# Altium footprint library QUTMS-MCISOLibrary.PcbLib: 51 footprints (part 1 of 4)
Each footprint in its own frame and in the unit in brackets; x right, y up, seen from the top. Pads: shape width x height; smd on the part's side, far side on the other; paste and mask are expansions set on the pad; w line width, h text height; cw(c..) or ccw(c..) is an arc to the next point about the centre after c.
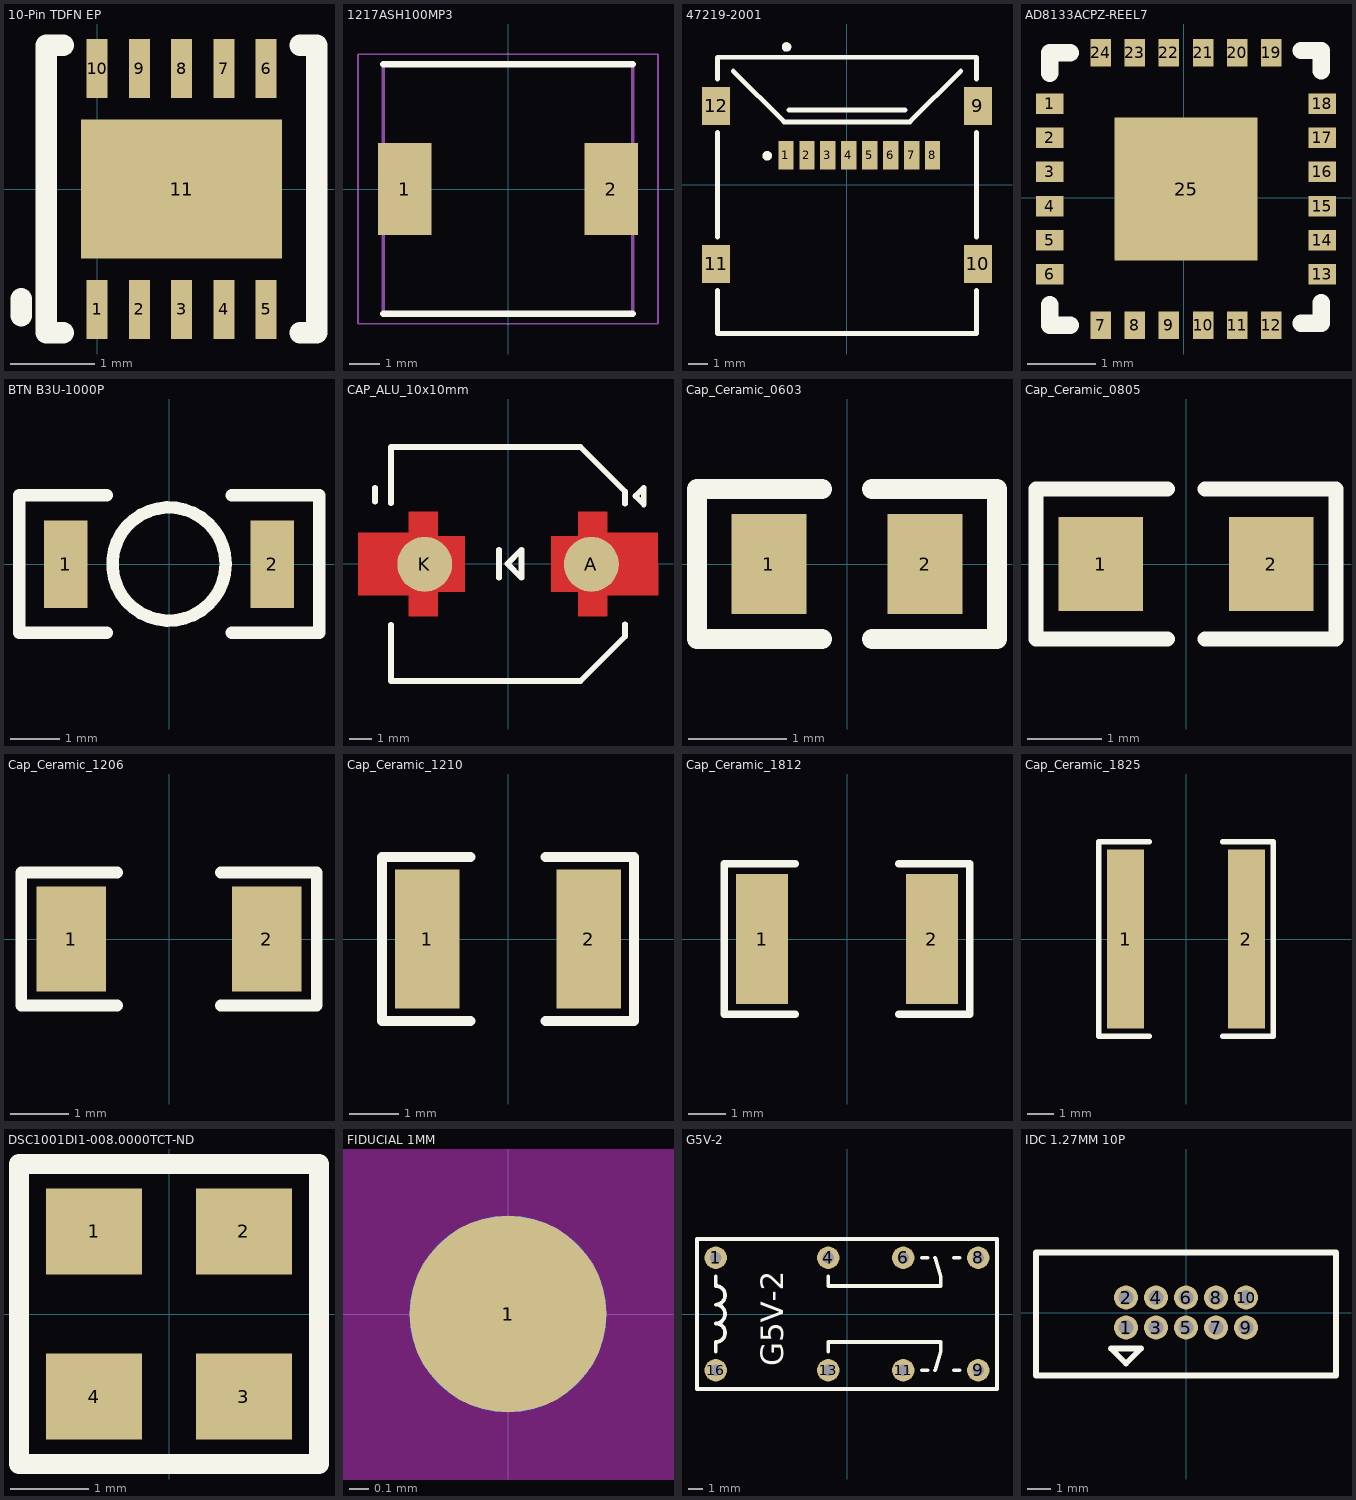
[diagram p0: the footprints below, top view; thin cyan lines are the x and y axes]

## 10-Pin TDFN EP [mm]
pads (11):
  rect 0.25x0.7 smd: 1(0,-1.425) 2(0.5,-1.425) 3(1,-1.425) 4(1.5,-1.425) 5(2,-1.425) 6(2,1.425) 7(1.5,1.425) 8(1,1.425) 9(0.5,1.425) 10(0,1.425)
  rect 2.38x1.65 smd: 11(1,0)
Top Overlay:
  lines w0.254: -0.9,-1.5 -0.9,-1.3 ; -0.4,-1.7 -0.6,-1.7 -0.6,1.7 -0.4,1.7 ; 2.4,-1.7 2.6,-1.7 2.6,1.7 2.4,1.7

## 1217ASH100MP3 [mm]
pads (2):
  rect 1.75x3 smd: 1(-3.375,0) 2(3.375,0)
Top Overlay:
  lines w0.2: -4.075,-4.075 4.075,-4.075 ; -4.075,4.075 4.075,4.075
Mechanical 13:
  lines w0.1: -4.075,-4.075 4.075,-4.075 4.075,4.075 -4.075,4.075 -4.075,-4.075
Mechanical 15:
  lines w0.05: -4.9,-4.4 4.9,-4.4 4.9,4.4 -4.9,4.4 -4.9,-4.4
3D body "DEM8045Z-180M=P3.stp": height 4.6, standoff 0, extent -4.075,-4.075 4.075,4.075

## 47219-2001 [mm]
pads (12):
  rect 0.8x1.5 smd: 1(-3.205,1.55) 2(-2.105,1.55) 3(-1.005,1.55) 4(0.095,1.55) 5(1.195,1.55) 6(2.295,1.55) 7(3.395,1.55) 8(4.495,1.55)
  rect 1.45x2 smd: 9(6.875,4.15) 10(6.875,-4.15) 11(-6.875,-4.15) 12(-6.875,4.15)
Top Overlay:
  circle w0.25: c-3.175,7.239 r0.125
  circle w0.25: c-4.191,1.524 r0.125
  lines w0.254: -6.8,-5.55 -6.8,-7.8 6.8,-7.8 6.8,-5.55 ; -6.8,-2.75 -6.8,2.75 ; -6.8,5.55 -6.8,6.7 6.8,6.7 6.8,5.55 ; -5.969,5.969 -3.302,3.302 3.302,3.302 5.969,5.969 ; -3.048,3.937 3.048,3.937 ; 6.8,-2.75 6.8,2.75
3D body "472192001.stp": height 1.91, standoff 0.02, extent -7.3,-7.793 7.3,6.707

## AD8133ACPZ-REEL7 [mm]
pads (25):
  rect 0.4x0.3 smd: 1(-1.97,1.378) 2(-1.97,0.878) 3(-1.97,0.378) 4(-1.97,-0.122) 5(-1.97,-0.622) 6(-1.97,-1.122) 13(2.03,-1.122) 14(2.03,-0.622) 15(2.03,-0.122) 16(2.03,0.378) 17(2.03,0.878) 18(2.03,1.378)
  rect 0.3x0.4 smd: 7(-1.22,-1.872) 8(-0.72,-1.872) 9(-0.22,-1.872) 10(0.28,-1.872) 11(0.78,-1.872) 12(1.28,-1.872) 19(1.28,2.128) 20(0.78,2.128) 21(0.28,2.128) 22(-0.22,2.128) 23(-0.72,2.128) 24(-1.22,2.128)
  rect 2.1x2.1 smd: 25(0.03,0.128)
Top Overlay:
  lines w0.254: -1.97,-1.572 -1.97,-1.872 -1.67,-1.872 ; -1.97,1.828 -1.97,2.128 -1.67,2.128 ; 1.715,-1.839 2.015,-1.839 2.015,-1.539 ; 1.715,2.161 2.015,2.161 2.015,1.861

## BTN B3U-1000P [mil] "OMRON B3U-1000P"
pads (2):
  rect 35x70 smd: 1(-82.68,0) 2(82.68,0)
Top Overlay:
  circle w10: c0,0 r45.28
  lines w10: -50,-55 -120,-55 -120,55 -50,55 ; 50,-55 120,-55 120,55 50,55
3D body "B3U_1000P.step": height 62.99, standoff 0, extent -78.74,-49.21 78.74,49.22

## CAP_ALU_10x10mm [mm]
pads (2):
  round 2.466 smd paste+0 mask+0: A(3.738,-0.013) K(-3.737,-0.013)
Top Layer:
  region: 1.951,-1.25 1.951,1.25 3.151,1.25 3.151,2.35 4.451,2.35 4.451,1.397 6.731,1.397 6.731,-1.397 4.451,-1.397 4.451,-2.35 3.151,-2.35 3.151,-1.25
  region: -1.949,-1.25 -1.949,1.25 -3.149,1.25 -3.149,2.35 -4.449,2.35 -4.449,1.397 -6.731,1.397 -6.731,-1.397 -4.449,-1.397 -4.449,-2.35 -3.149,-2.35 -3.149,-1.25
Top Overlay:
  lines w0.254: -5.969,2.794 -5.969,3.429 ; -5.249,-2.725 -5.249,-5.25 3.251,-5.25 5.251,-3.25 5.251,-2.7 ; -5.249,2.725 -5.249,5.25 3.251,5.25 5.251,3.25 5.251,2.7 ; -0.407,-0.623 -0.407,0.647 ; -0.026,0.012 0.609,0.647 0.609,-0.623 -0.026,0.012 ; 5.715,3.048 6.096,3.429 6.096,2.667 5.715,3.048
3D body "Cap_Panasonic_EEH-ZC1K470V_eec.STEP": height 10.81, standoff 0, extent -5.999,-5.15 6.001,5.15

## Cap_Ceramic_0603 [mil]
pads (2):
  rect 30x40 smd: 1(-31.24,0) 2(31.24,0)
Top Overlay:
  lines w8: -10,-30 -60,-30 -60,30 -10,30 ; 10,-30 60,-30 60,30 10,30
3D body "ceramic_cap_0603.stp": height 33.46, standoff 0, extent -31.49,-15.74 31.51,15.75

## Cap_Ceramic_0805 [mil]
pads (2):
  rect 45x50 smd: 1(-45.43,0) 2(45.43,0)
Top Overlay:
  lines w8: -10,-40 -80,-40 -80,40 -10,40 ; 10,-40 80,-40 80,40 10,40
3D body "ceramic_cap_0805.stp": height 43.31, standoff 0, extent -39.36,-25.58 39.38,25.6

## Cap_Ceramic_1206 [mil]
pads (2):
  rect 47x71 smd: 1(-66.08,0) 2(66.08,0)
Top Overlay:
  lines w8: -35,-45 -100,-45 -100,45 -35,45 ; 35,-45 100,-45 100,45 35,45
3D body "ceramic_cap_1206.stp": height 53.15, standoff 0, extent -62.99,-31.49 63,31.5

## Cap_Ceramic_1210 [mm]
pads (2):
  rect 1.3x2.8 smd: 1(-1.625,0) 2(1.625,0)
Top Overlay:
  lines w0.203: -0.762,-1.651 -2.54,-1.651 -2.54,1.651 -0.762,1.651 ; 0.762,-1.651 2.54,-1.651 2.54,1.651 0.762,1.651
3D body "ceramic_cap_1210.stp": height 1.35, standoff 0, extent -1.6,-1.25 1.6,1.25

## Cap_Ceramic_1812 [mil]
pads (2):
  rect 55x138 smd: 1(-90,0) 2(90,0)
Top Overlay:
  lines w8: -55,-80 -130,-80 -130,80 -55,80 ; 55,-80 130,-80 130,80 55,80
3D body "ceramic_cap_1812.stp": height 53.15, standoff 0, extent -88.58,-62.99 88.59,63

## Cap_Ceramic_1825 [mm]
pads (2):
  rect 1.4x6.8 smd: 1(-2.286,0) 2(2.286,0)
Top Overlay:
  lines w0.203: -1.397,-3.683 -3.302,-3.683 -3.302,3.683 -1.397,3.683 ; 1.397,-3.683 3.302,-3.683 3.302,3.683 1.397,3.683
3D body "ceramic_cap_1825.stp": height 1.1, standoff 0, extent -2.25,-3.2 2.25,3.2

## DSC1001DI1-008.0000TCT-ND [mm]
pads (4):
  rect 1.219x1.092 smd: 1(-0.95,1.05) 2(0.95,1.05) 3(0.95,-1.05) 4(-0.95,-1.05)
Top Overlay:
  lines w0.254: -1.905,-1.905 1.905,-1.905 1.905,1.905 -1.905,1.905 -1.905,-1.905
3D body: height 0.85, standoff 0, extent -1.25,-1.6 1.25,1.6

## FIDUCIAL 1MM [mm]
pads (2):
  round 1 smd mask+1: 1(0,0)
  round 1 smd far side mask+1: 1(0,0)
Keep-Out Layer:
  circle w1.524: c0,0 r0.762

## G5V-2 [mil]
pads (8):
  round 60 hole 30: 1(-350,150) 4(-50,150) 6(150,150) 8(350,150) 9(350,-150) 11(150,-150) 13(-50,-150) 16(-350,-150)
Top Overlay:
  lines w10: -350,-100 -350,-75 ccw(c-350,-50) -350,-25 ccw(c-350,0) -350,25 ccw(c-350,50) -350,75 -350,100 ; -50,-100 -50,-75 250,-75 250,-100 235,-150 ; -50,100 -50,75 250,75 250,100 235,150 ; 200,-150 215,-150 ; 200,150 215,150 ; 285,-150 300,-150 ; 285,150 300,150 ; -400,-200 -400,200 400,200 400,-200 -400,-200
  text "G5V-2" at -170,-139.95 h60
3D body "G5V_2.step": height 452.76, standoff -137.8, extent -403.54,-198.81 403.55,198.83

## IDC 1.27MM 10P [mil]
pads (10):
  round 40 hole 25: 1(-100,-25) 2(-100,25) 3(-50,-25) 4(-50,25) 5(0,-25) 6(0,25) 7(50,-25) 8(50,25) 9(100,-25) 10(100,25)
Top Overlay:
  lines w10: -250,-105 250,-105 250,100 -250,100 -250,-105 ; -125,-60 -75,-60 -100,-85 -125,-60
3D body "CONB127P-2R-10W_TH.STEP": height 213.6, standoff -81.68, extent -249.01,-104.33 249.02,100.4